# Altium footprint library E-Component Mechanical.PCBLIB: 4 footprints
Each footprint in its own frame and in the unit in brackets; x right, y up, seen from the top. Pads: shape width x height; smd on the part's side, far side on the other; paste and mask are expansions set on the pad; w line width, h text height; cw(c..) or ccw(c..) is an arc to the next point about the centre after c.
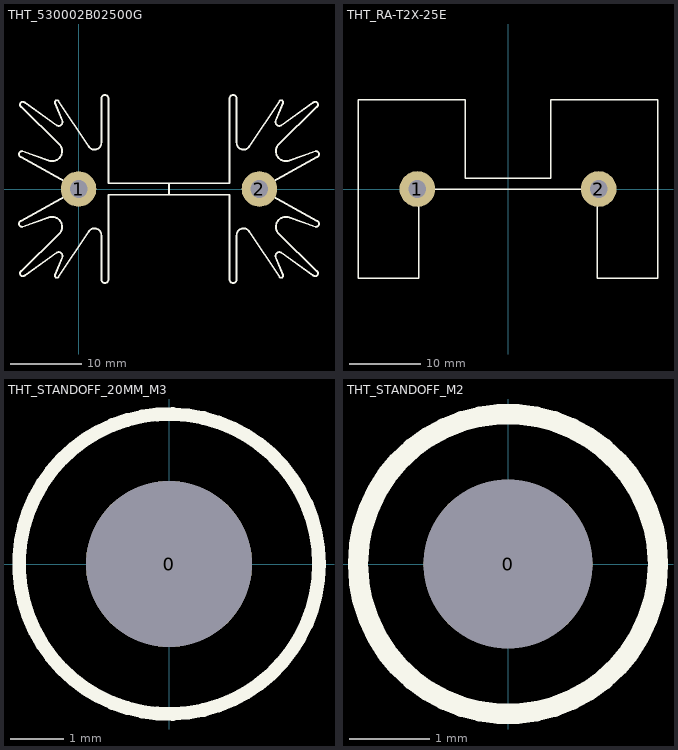
[diagram p0: the footprints below, top view; thin cyan lines are the x and y axes]

## THT_530002B02500G [mm]
pads (2):
  round 5 hole 2.46: 1(0,0) 2(25.4,0)
Top Overlay:
  lines w0.254: -8.143,-4.507 ccw(c-7.93,-4.885) -7.84,-5.31 -4.206,-4.007 cw(c-3.71,-5.313) -2.7,-6.28 -8.072,-11.523 ccw(c-7.814,-11.839) -7.5,-12.1 -3.1,-8.948 cw(c-2.797,-9.393) -2.3,-9.6 -3.3,-12.1 ; -8.143,4.507 cw(c-7.93,4.885) -7.84,5.31 -4.206,4.007 ccw(c-3.71,5.313) -2.7,6.28 -8.072,11.523 cw(c-7.813,11.839) -7.5,12.1 -3.1,8.948 ccw(c-2.797,9.393) -2.3,9.6 -3.3,12.1 ; -8.1,-4.5 0,0 -8.1,4.5 ; -3.304,-12.098 ccw(c-3.052,-12.199) -2.829,-12.354 1.446,-5.949 cw(c2.242,-6.483) 3.2,-6.5 3.2,-12.7 ccw(c3.7,-12.7) 4.2,-12.7 4.2,-0.8 21.2,-0.8 21.2,-12.7 ccw(c21.7,-12.7) 22.2,-12.7 22.2,-6.5 cw(c23.158,-6.483) 23.954,-5.949 28.229,-12.354 ; -3.304,12.098 cw(c-3.052,12.199) -2.829,12.354 ; -2.829,12.354 1.446,5.949 ccw(c2.242,6.483) 3.2,6.5 3.2,12.7 cw(c3.7,12.7) 4.2,12.7 4.2,0.8 21.2,0.8 21.2,12.7 cw(c21.7,12.7) 22.2,12.7 22.2,6.5 ccw(c23.158,6.483) 23.954,5.949 28.229,12.354 cw(c28.452,12.199) 28.704,12.098 ; 12.7,-0.8 12.7,0.8 ; 28.229,-12.354 ccw(c28.452,-12.199) 28.704,-12.098 ; 28.7,-12.1 27.7,-9.6 cw(c28.197,-9.393) 28.5,-8.948 32.9,-12.1 ccw(c33.213,-11.839) 33.472,-11.523 28.1,-6.28 cw(c29.11,-5.313) 29.606,-4.007 33.24,-5.31 ccw(c33.33,-4.885) 33.543,-4.507 ; 28.7,12.1 27.7,9.6 ccw(c28.197,9.393) 28.5,8.948 32.9,12.1 cw(c33.214,11.839) 33.472,11.523 28.1,6.28 ccw(c29.11,5.313) 29.606,4.007 33.24,5.31 cw(c33.33,4.885) 33.543,4.507 ; 33.5,-4.5 25.4,0 33.5,4.5

## THT_RA-T2X-25E [mm] "THT_RA-T2X-25E"
height 25.4
pads (2):
  round 5 hole 2.46: 1(-12.7,0) 2(12.7,0)
Top Overlay:
  lines w0.2: -12.5,-1.697 -12.5,-12.5 -21,-12.5 -21,12.5 -6,12.5 -6,1.5 0,1.5 6,1.5 6,12.5 21,12.5 21,-12.5 12.5,-12.5 12.5,-1.697 ccw(c12.5,0) 10.803,0 0,0 -10.803,0
  lines w0.254: -12.5,-1.697 cw(c-12.5,0) -10.803,0

## THT_STANDOFF_20MM_M3 [mm]
pads (1):
  round 3.1 hole 3.1 unplated: 0(0,0)
Top Overlay:
  circle w0.254: c0,0 r2.8

## THT_STANDOFF_M2 [mm] "THT_STANDOFF_M2"
pads (1):
  round 2.1 hole 2.1 unplated: 0(0,0)
Top Overlay:
  circle w0.254: c0,0 r1.866